# Altium schematic symbol library Headers.SchLib: 3 symbols
Pins are listed as number, name and electrical type; pins without a type are passive.

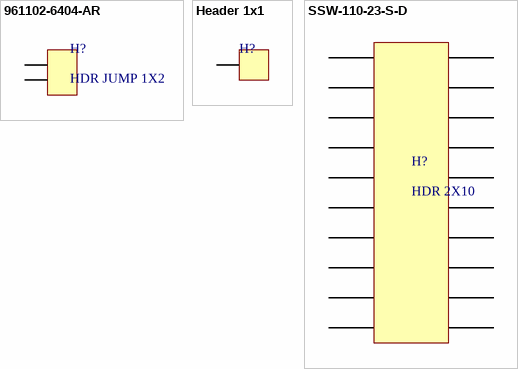
[diagram p0: symbols 961102-6404-AR to SSW-110-23-S-D]

## 961102-6404-AR
designator H?, comment HDR JUMP 1X2
Header; PinStrip; CopperAlloy; HighTempThermoplastic; 2Cnts; 2A; Str; 961Series; Manufacturer: 3M; Manufacturer Part Number: 961102-6404-AR; Number of Positions: 2; Gender: Male; Pitch: 2.54mm; Contact Post Length: 3.3mm; Supplier 1: Digi-Key; Stock 1: 52622; Pricing 1: 1 = 0.22000, 10 = 0.21000, 25 = 0.17920, 50 = 0.15680, 100 = 0.14560, 250 = 0.12880, 500 = 0.12320 (USD); RoHS: Yes; Mount: Through Hole; Contact Plating: Gold; Contact Material: Copper Alloy,Copper; Color: Black; Housing Color: Black; Housing Material: Thermoplastic; Contact Shape: Square; Contact Finish - Mating: GOLD; Insulation Material: Thermoplastic; Insulation Color: Black; Min Operating Temperature: -25°C; Max Operating Temperature: 105°C; Number of Rows: 1; Max Current Rating: 2A; Package Quantity: 3000; Packaging: Bulk; Contact Gender: Male; Current Rating: 2A; Termination: Solder; Number of Contacts: 2; Orientation: Straight; Connector Type: Header; Fastening Type: Pull; Series: 961; Contact Type: Male Pin; Length: 5.08mm; Contact Mating Length: 0.22inch; Depth: 2.5mm; REACH SVHC: Unknown; Flammability Rating: UL94 V-0; RoHS Compliant: Yes; ComponentLink1URL: https://datasheet.ciiva.com/731/ts2181-731431.pdf?src-supplier=Digi-Key; ComponentLink1Description: https://datasheet.ciiva.com/731/ts2181-731431.pdf?src-supplier=Digi-Key; ComponentLink2URL: https://datasheet.ciiva.com/5724/ts2181-5724889.pdf?src-supplier=Farnell; ComponentLink2Description: https://datasheet.ciiva.com/5724/ts2181-5724889.pdf?src-supplier=Farnell; ComponentLink3URL: https://datasheet.ciiva.com/7997/ts2181-7997272.pdf?src-supplier=Element14; ComponentLink3Description: https://datasheet.ciiva.com/7997/ts2181-7997272.pdf?src-supplier=Element14; ComponentLink4URL: https://datasheet.ciiva.com/14617/70237733-14617125.pdf?src-supplier=Allied+Electronics; ComponentLink4Description: https://datasheet.ciiva.com/14617/70237733-14617125.pdf?src-supplier=Allied+Electronics; ComponentLink5URL: https://datasheet.ciiva.com/46428/1794052-46428554.pdf?src-supplier=Element14; ComponentLink5Description: https://datasheet.ciiva.com/46428/1794052-46428554.pdf?src-supplier=Element14; Supplier Part Number 1: 3M9457-02-ND
footprint HDR 1X2 (jumper)
pins: 1, 2

## Header 1x1
designator H?, comment HDR1  (value not drawn)
Header 1x1, hole
footprint HDR 1X1
pins: 1

## SSW-110-23-S-D
designator H?, comment HDR 2X10
Tiger Buy Socket Strip With Pcb Tails, 0.100" Pitch Rohs Compliant: Yes; Manufacturer: Samtec; Manufacturer Part Number: SSW-110-23-S-D; Number of Contacts: 20; Gender: Female; Pitch: 2.54mm; Supplier 1: RSComponents; Stock 1: 63; Pricing 1: 1 = 2.69000, 10 = 2.46000, 50 = 2.32000, 100 = 2.19000, 250 = 1.97000 (GBP); RoHS: Yes; Mount: Through Hole; Contact Plating: Gold; Number of Rows: 2; Packaging: Bulk; Termination: Solder; Radiation Hardening: No; RoHS Compliant: Yes; ComponentLink1URL: ftp://ftp.samtec.com/webfiles/PDF/SSQ_TH.PDF?src-supplier=Avnet; ComponentLink1Description: ftp://ftp.samtec.com/webfiles/PDF/SSQ_TH.PDF?src-supplier=Avnet; Supplier Part Number 1: 2079196
footprint HDR 2X10
pins: 1, 2, 3, 4, 5, 6, 7, 8, 9, 10, 11, 12, 13, 14, 15, 16, 17, 18, 19, 20